# Altium footprint library 24-Interface.PcbLib: 3 footprints
Each footprint in its own frame and in the unit in brackets; x right, y up, seen from the top. Pads: shape width x height; smd on the part's side, far side on the other; paste and mask are expansions set on the pad; w line width, h text height; cw(c..) or ccw(c..) is an arc to the next point about the centre after c.
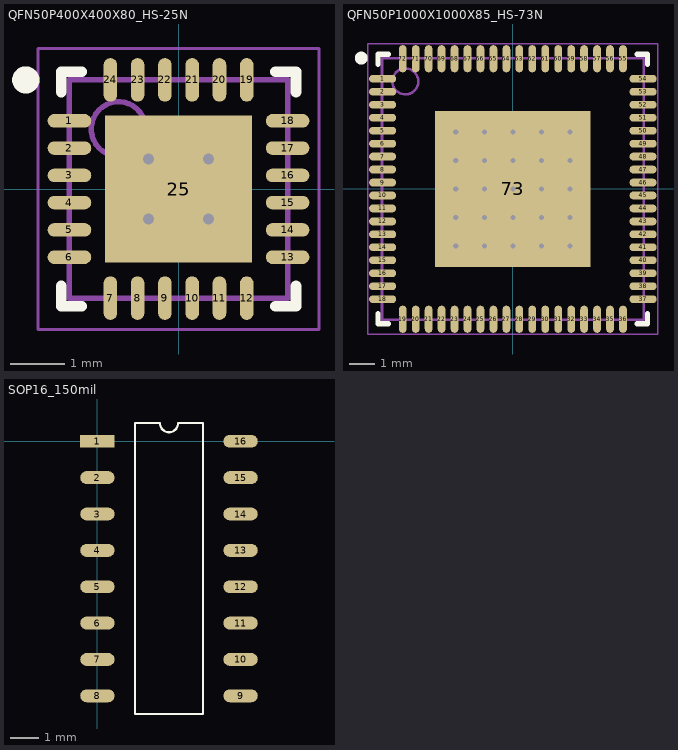
[diagram p0: the footprints below, top view; thin cyan lines are the x and y axes]

## QFN50P400X400X80_HS-25N [mm] "QFN, 24-Leads, Body 4.00x4.00mm, Pitch 0.50mm, Thermal Pad 2.70x2.70mm, IPC Medium Density"
height 0.8
pads (25):
  oval 0.8x0.25 smd: 1(-2,1.25) 2(-2,0.75) 3(-2,0.25) 4(-2,-0.25) 5(-2,-0.75) 6(-2,-1.25) 13(2,-1.25) 14(2,-0.75) 15(2,-0.25) 16(2,0.25) 17(2,0.75) 18(2,1.25)
  oval 0.25x0.8 smd: 7(-1.25,-2) 8(-0.75,-2) 9(-0.25,-2) 10(0.25,-2) 11(0.75,-2) 12(1.25,-2) 19(1.25,2) 20(0.75,2) 21(0.25,2) 22(-0.25,2) 23(-0.75,2) 24(-1.25,2)
  rect 2.7x2.7 smd: 25(0,0)
via -0.55,0.55 diameter 0.5 hole 0.2
via 0.55,0.55 diameter 0.5 hole 0.2
via -0.55,-0.55 diameter 0.5 hole 0.2
via 0.55,-0.55 diameter 0.5 hole 0.2
Top Overlay:
  circle w0.25: c-2.8,2 r0.125
  lines w0.2: -2.15,-1.775 -2.15,-2.15 -1.775,-2.15 ; -2.15,1.775 -2.15,2.15 -1.775,2.15 ; 1.775,-2.15 2.15,-2.15 2.15,-1.775 ; 1.775,2.15 2.15,2.15 2.15,1.775
Mechanical 13:
  circle w0.1: c-1.1,1.1 r0.5
  lines w0.1: -2,-2 -2,2 2,2 2,-2 -2,-2
Mechanical 15:
  lines w0.05: -2.575,-2.575 -2.575,2.575 2.575,2.575 2.575,-2.575 -2.575,-2.575
  lines w0.1: -0.5,0 0.5,0 ; 0,-0.5 0,0.5
3D body "QFN50P400X400X80_HS-25N.step": height 0.8, standoff 0, extent -2.01,-2.01 2.01,2.01

## QFN50P1000X1000X85_HS-73N [mm] "QFN, 72-Leads, Body 10.00x10.00mm, Pitch 0.50mm, Thermal Pad 6.00x6.00mm, IPC Medium Density"
height 0.85
pads (73):
  oval 1.05x0.3 smd: 1(-5.025,4.25) 2(-5.025,3.75) 3(-5.025,3.25) 4(-5.025,2.75) 5(-5.025,2.25) 6(-5.025,1.75) 7(-5.025,1.25) 8(-5.025,0.75) 9(-5.025,0.25) 10(-5.025,-0.25) 11(-5.025,-0.75) 12(-5.025,-1.25) 13(-5.025,-1.75) 14(-5.025,-2.25) 15(-5.025,-2.75) 16(-5.025,-3.25) 17(-5.025,-3.75) 18(-5.025,-4.25) 37(5.025,-4.25) 38(5.025,-3.75) 39(5.025,-3.25) 40(5.025,-2.75) 41(5.025,-2.25) 42(5.025,-1.75) 43(5.025,-1.25) 44(5.025,-0.75) 45(5.025,-0.25) 46(5.025,0.25) 47(5.025,0.75) 48(5.025,1.25) 49(5.025,1.75) 50(5.025,2.25) 51(5.025,2.75) 52(5.025,3.25) 53(5.025,3.75) 54(5.025,4.25)
  oval 0.3x1.05 smd: 19(-4.25,-5.025) 20(-3.75,-5.025) 21(-3.25,-5.025) 22(-2.75,-5.025) 23(-2.25,-5.025) 24(-1.75,-5.025) 25(-1.25,-5.025) 26(-0.75,-5.025) 27(-0.25,-5.025) 28(0.25,-5.025) 29(0.75,-5.025) 30(1.25,-5.025) 31(1.75,-5.025) 32(2.25,-5.025) 33(2.75,-5.025) 34(3.25,-5.025) 35(3.75,-5.025) 36(4.25,-5.025) 55(4.25,5.025) 56(3.75,5.025) 57(3.25,5.025) 58(2.75,5.025) 59(2.25,5.025) 60(1.75,5.025) 61(1.25,5.025) 62(0.75,5.025) 63(0.25,5.025) 64(-0.25,5.025) 65(-0.75,5.025) 66(-1.25,5.025) 67(-1.75,5.025) 68(-2.25,5.025) 69(-2.75,5.025) 70(-3.25,5.025) 71(-3.75,5.025) 72(-4.25,5.025)
  rect 6x6 smd: 73(0,0)
via 2.2,-2.2 diameter 0.5 hole 0.2
via 1.1,-2.2 diameter 0.5 hole 0.2
via 0,-2.2 diameter 0.5 hole 0.2
via -1.1,-2.2 diameter 0.5 hole 0.2
via -2.2,-2.2 diameter 0.5 hole 0.2
via 2.2,-1.1 diameter 0.5 hole 0.2
via 1.1,-1.1 diameter 0.5 hole 0.2
via 0,-1.1 diameter 0.5 hole 0.2
via -1.1,-1.1 diameter 0.5 hole 0.2
via -2.2,-1.1 diameter 0.5 hole 0.2
via 2.2,0 diameter 0.5 hole 0.2
via 1.1,0 diameter 0.5 hole 0.2
via 0,0 diameter 0.5 hole 0.2
via -1.1,0 diameter 0.5 hole 0.2
via -2.2,0 diameter 0.5 hole 0.2
via 2.2,1.1 diameter 0.5 hole 0.2
via 1.1,1.1 diameter 0.5 hole 0.2
via 0,1.1 diameter 0.5 hole 0.2
via -1.1,1.1 diameter 0.5 hole 0.2
via -2.2,1.1 diameter 0.5 hole 0.2
via 2.2,2.2 diameter 0.5 hole 0.2
via 1.1,2.2 diameter 0.5 hole 0.2
via 0,2.2 diameter 0.5 hole 0.2
via -1.1,2.2 diameter 0.5 hole 0.2
via -2.2,2.2 diameter 0.5 hole 0.2
Top Overlay:
  circle w0.25: c-5.85,5.05 r0.125
  lines w0.2: -5.2,-4.8 -5.2,-5.2 -4.8,-5.2 ; -5.2,4.8 -5.2,5.2 -4.8,5.2 ; 4.8,-5.2 5.2,-5.2 5.2,-4.8 ; 4.8,5.2 5.2,5.2 5.2,4.8
Mechanical 13:
  circle w0.1: c-4.15,4.15 r0.5
  lines w0.1: -5.05,-5.05 5.05,-5.05 5.05,5.05 -5.05,5.05 -5.05,-5.05
Mechanical 15:
  lines w0.05: -5.6,-5.6 5.6,-5.6 5.6,5.6 -5.6,5.6 -5.6,-5.6
  lines w0.1: -0.5,0 0.5,0 ; 0,-0.5 0,0.5
3D body "QFN50P1000X1000X85_HS-73N.step": height 0.85, standoff 0, extent -5.07,-5.07 5.07,5.07

## SOP16_150mil [mm]
pads (16):
  rect 1.2x0.45 smd: 1(0,0)
  oval 1.2x0.45 smd: 2(0,-1.27) 3(0,-2.54) 4(0,-3.81) 5(0,-5.08) 6(0,-6.35) 7(0,-7.62) 8(0,-8.89) 9(5,-8.89) 10(5,-7.62) 11(5,-6.35) 12(5,-5.08) 13(5,-3.81) 14(5,-2.54) 15(5,-1.27) 16(5,0)
Top Overlay:
  lines w0.08: 1.315,-9.525 1.315,0.635 2.183,0.635 ccw(c2.5,0.635) 2.818,0.635 3.685,0.635 3.685,-9.525 1.315,-9.525
3D body "User Library-SOP16.step": height 1.59, standoff 0, extent -0.577,-9.436 5.658,0.545